# Altium schematic symbol library Schlib1.SchLib: 21 symbols
Pins are listed as number, name and electrical type; pins without a type are passive.

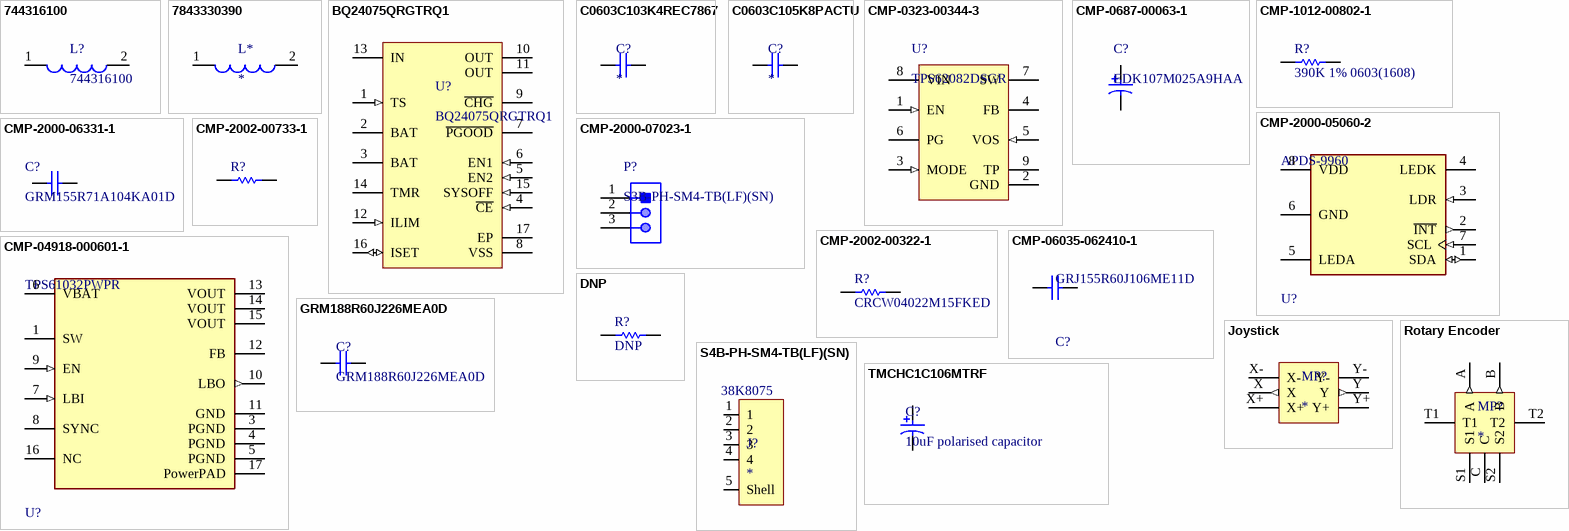
[diagram p0: symbols 744316100 to TMCHC1C106MTRF]

## 744316100
designator L?
Buck L1-Inductor Power Shielded Wirewound 1uH/0.65uH 20% 100KHz 11.5A 0.00475Ohm DCR Automotive T/R; Manufacturer: Wurth Electronics; Inductance: 1uH; DC Resistance (DCR): 4.75mR; Self Resonant Frequency: 158MHz; Supplier 1: Digi-Key; Supplier Part Number 1: 732-6176-1-ND; Manufacturer Part Number: 744316100; RoHS: Yes; Category: Fixed Inductors; Stock 1: 1274; Pricing 1: 1=2.64000, 50=2.44400, 100=2.22200, 250=2.01900, 500=1.83600 (USD); Mount: Surface Mount; Case/Package: SMD/SMT; Number of Pins: 2; Min Operating Temperature: -40°C; Max Operating Temperature: 150°C; Packaging: Cut Tape; Resistor Type: Wirewound; Current Rating: 11.5A; Saturation Current: 11.5A; Shielding: Shielded; Test Frequency: 100kHz; RMS Current (Irms): 11.5A; Tolerance: 20%; Inductance Tolerance: 20%; Length: 0.217inch; Width: 0.209inch; Height - Seated (Max): 0.169inch; REACH SVHC: Unknown; RoHS Compliant: Yes; ComponentLink1URL: http://www.farnell.com/datasheets/1880919.pdf?src-supplier=Farnell; ComponentLink1Description: http://www.farnell.com/datasheets/1880919.pdf?src-supplier=Farnell; ComponentLink2URL: https://katalog.we-online.de/pbs/datasheet/744316100.pdf?src-supplier=Digi-Key; ComponentLink2Description: https://katalog.we-online.de/pbs/datasheet/744316100.pdf?src-supplier=Digi-Key; ComponentLink3URL: http://www.farnell.com/datasheets/1880919.pdf?src-supplier=Element14; ComponentLink3Description: http://www.farnell.com/datasheets/1880919.pdf?src-supplier=Element14
footprint 744316100
pins: 1, 2

## 7843330390
designator L*
Boost L1-Inductor, Aec-Q200, 3.9Uh, Shld, 11.2A Rohs Compliant: Yes; Manufacturer: Wurth Electronics; Manufacturer Part Number: 7843330390; Supplier 1: Digi-Key; Supplier Part Number 1: 732-11759-1-ND; RoHS: Yes; Stock 1: 334; Pricing 1: 1=2.77000, 10=2.71300, 50=2.50400, 100=2.39900 (USD); RoHS Compliant: No
footprint 7843330390
pins: 1, 2

## BQ24075QRGTRQ1
designator U?
BQ24075-Q1 Automotive 4.35V to 1; Manufacturer: Texas Instruments; Output Voltage: 4.2V; Max Supply Voltage: 6.4V; Output Current: 1.5A; Number of Cells: 1; Interface: USB; Fault Protection: Over Voltage,Over Temperature,Short Circuit,Reverse Current; Battery Chemistry: LITHIUM-ION; Supplier 1: Digi-Key; Supplier Part Number 1: 296-36557-1-ND; Manufacturer Part Number: BQ24075QRGTRQ1; RoHS: Yes; Category: Battery Management; Pricing 1: 1=2.84000, 10=2.54800, 25=2.40880, 100=2.08770, 250=1.98060, 500=1.77720, 1000=1.76750 (USD); Mount: Surface Mount; Case/Package: QFN; Number of Pins: 16; Contact Plating: Gold; Min Operating Temperature: -40°C; Max Operating Temperature: 125°C; Packaging: Tape and Reel; Package Quantity: 3000; Max Charge Current: 1.5A; Battery Pack Voltage: 4.2V; Series: -; Lead Free: Lead Free; RoHS Compliant: Yes; ComponentLink1URL: https://datasheet.ciiva.com/29609/bq24075-q1-29609824.pdf?src-supplier=Digi-Key; ComponentLink1Description: https://datasheet.ciiva.com/29609/bq24075-q1-29609824.pdf?src-supplier=Digi-Key; ComponentLink2URL: https://datasheet.ciiva.com/12237/slusau3b-128558-12237294.pdf?src-supplier=Mouser; ComponentLink2Description: https://datasheet.ciiva.com/12237/slusau3b-128558-12237294.pdf?src-supplier=Mouser
footprint QFN50P300X300X100-17N
pins: 1 TS (in), 2 BAT, 3 BAT, 4 ~{CE} (in), 5 EN2 (in), 6 EN1 (in), 7 ~{PGOOD}, 8 VSS (power), 9 ~{CHG}, 10 OUT, 11 OUT, 12 ILIM (in), 13 IN (power), 14 TMR, 15 SYSOFF (in), 16 ISET (io), 17 EP

## C0603C103K4REC7867
designator C?
Rotary Enc-Cap Cer 0603 10NF 16V X7R 10%; Manufacturer: KEMET; Manufacturer Part Number: C0603C103K4REC7867; Supplier 1: Digi-Key; Supplier Part Number 1: 399-C0603C103K4REC7867CT-ND; RoHS: No; Category: Ceramic Capacitors; Stock 1: 907; Pricing 1: 1=0.12000, 10=0.08800, 50=0.04820, 100=0.03930, 500=0.02810, 1000=0.02208 (USD)
footprint CAPC1608X90
pins: 1, 2

## C0603C105K8PACTU
designator C?
Boost Coutx, Cap Ceramic 1uF 16V X7R 5% SMD 0603 125°C Paper T/R; Manufacturer: KEMET; MF: {'manufacturer': u'KEMET'}; MP: C0603C105K8PACTU; Tolerance: 10%; Dielectric: X5R; Voltage: 10V; Value: *; Package: None; Price: None; Availability: Unavailable; Supplier 1: Digi-Key; Supplier Part Number 1: 399-C0603C105K8PAC7867TR-ND; Manufacturer Part Number: C0603C105K8PACTU; RoHS: Yes; Category: Ceramic Capacitors; Stock 1: 359436; Pricing 1: 4000=0.01113, 8000=0.01016 (USD); Mount: Surface Mount; Case/Package: 0603; Number of Pins: 2; Dielectric Material: Ceramic; Case Code (Imperial): 0603; Case Code (Metric): 1608; Weight: 7.1E-05oz; Min Operating Temperature: -55°C; Max Operating Temperature: 85°C; Capacitance: 1uF; Packaging: Tape and Reel; Termination: SMD/SMT; Voltage Rating (DC): 10V; Package Quantity: 1; Voltage Rating: 10V; Series: C; Construction: Flat; Length: 1.6mm; Width: 0.031inch; Height: 0.8mm; Depth: 0.8mm; Thickness: 0.035inch; Radiation Hardening: No; Lead Free: Lead Free; REACH SVHC: No SVHC; RoHS Compliant: Yes; ComponentLink1URL: https://datasheet.ciiva.com/11787/0900766b8116eb59-11787747.pdf?src-supplier=RSComponents; ComponentLink1Description: https://datasheet.ciiva.com/11787/0900766b8116eb59-11787747.pdf?src-supplier=RSComponents; ComponentLink2URL: https://datasheet.ciiva.com/6074/40889-6074647.pdf?src-supplier=Farnell; ComponentLink2Description: https://datasheet.ciiva.com/6074/40889-6074647.pdf?src-supplier=Farnell; ComponentLink3URL: https://datasheet.ciiva.com/26847/getdatasheetpartid-385480-26847548.pdf?src-supplier=Verical; ComponentLink3Description: https://datasheet.ciiva.com/26847/getdatasheetpartid-385480-26847548.pdf?src-supplier=Verical; ComponentLink4URL: https://datasheet.ciiva.com/7823/40889-7823998.pdf?src-supplier=Element14; ComponentLink4Description: https://datasheet.ciiva.com/7823/40889-7823998.pdf?src-supplier=Element14; ComponentLink5URL: https://datasheet.ciiva.com/7823/1929483-7823999.pdf?src-supplier=Element14; ComponentLink5Description: https://datasheet.ciiva.com/7823/1929483-7823999.pdf?src-supplier=Element14; ComponentLink6URL: https://datasheet.ciiva.com/28645/1831760-28645655.pdf?src-supplier=Element14; ComponentLink6Description: https://datasheet.ciiva.com/28645/1831760-28645655.pdf?src-supplier=Element14; Supplier 2: Digi-Key; Supplier Part Number 2: 13-CC0603JRX7R7BB102CT-ND; Stock 2: 33465; Pricing 2: 1=0.10000, 10=0.07000, 50=0.03800, 100=0.03100, 500=0.02218, 1000=0.01742 (USD); Halogen Free: Halogen Free; ComponentLink7URL: https://datasheet.ciiva.com/11494/upy-gphc-x7r-6-3v-to-50v-8-11494730.pdf?src-supplier=Avnet; ComponentLink7Description: https://datasheet.ciiva.com/11494/upy-gphc-x7r-6-3v-to-50v-8-11494730.pdf?src-supplier=Avnet; Supplier 3: Digi-Key; Supplier Part Number 3: 311-3485-1-ND; Stock 3: 56081; Pricing 3: 1=0.26000, 10=0.17800, 50=0.10680, 100=0.09020, 500=0.06174, 1000=0.05462 (USD); ComponentLink8URL: http://www.yageo.com/documents/recent/UPY-GPHC_X7R_6.3V-to-50V_18.pdf?src-supplier=Digi-Key; ComponentLink8Description: http://www.yageo.com/documents/recent/UPY-GPHC_X7R_6.3V-to-50V_18.pdf?src-supplier=Digi-Key
footprint CAPC1608X90
pins: 1, 2

## CMP-0323-00344-3
designator U?, comment TPS62082DSGR
Buck Step Down Regulator with 2.3 to 6 V Input and 3.3 V Output, -40 to 85 degC, 8-Pin WSON (DSG), Green (RoHS & no Sb/Br); Manufacturer: Texas Instruments; Switch Current Limit(Typ)(A): 2.4; Vin(Min)(V): 2.3; Iq(Typ)(mA): 0.006; Regulated Outputs(#): 1; Vout(Max)(V): 3.3; Duty Cycle(Max)(%): 100; Iout(Max)(A): 1.2; SubFamily: Step-Down Regulator; Rating: Catalog; Vin(Max)(V): 6; ComponentLink1Description: Datasheet; ComponentLink3Description: URL Link1; ComponentLink2URL: http://www.ti.com/litv/pdf/mpds308a; DatasheetVersion: SLVSAE8B; PackageVersion: revB, Oct-2010; Eco-Plan: Green (RoHS & no Sb/Br); ComponentLink2Description: Package Specification; PackageReference: DSG0008A; Code_JEDEC: MO-229; Topology: Buck; PartNumber: TPS62082DSGR; PackageDescription: 8-Pin Plastic Small Outline No-Lead, 2 x 2 x 0.8 mm Body, 0.5 mm Pitch, Exposed Pad; ComponentLink1URL: http://www.ti.com/general/docs/lit/getliterature.tsp?genericPartNumber=TPS62082&fileType=pdf; ComponentLink3URL: Samples URL:http://www.ti.com/product/tps62082#samples; Vout(Min)(V): 3.3; Mounting Technology: Surface Mount
footprint DSG0008A_V (SON, 8-Leads, Body 2x2mm, Pitch 0.5mm, Thermal Pad 1.6x0.9mm, TI Recommended)
pins: 1 EN (in) "Device Enable Logic Input. Logic HIGH enables the device, logic LOW disables the device and turns it into shutdown.", 2 GND (power) "Power and Signal Ground.", 3 MODE (in) "Snooze Mode Enable Logic Input. Logic HIGH enables the Snooze Mode, logic LOW disables the Snooze Mode", 4 FB "Feedback Pin for the internal control loop. Connect this pin to the external feedback divider for the adjustable output version. For the fixed output voltage versions this pin must be left floating or connected to GND.", 5 VOS (in) "Output Voltage Sense Pin for the internal control loop. Must be connected to output.", 6 PG (hiz) "Power Good open drain output. This pin is pulled to low if the output voltage is below regulation limits. Can be left floating if not used", 7 SW (power) "Switch Pin connected to the internal MOSFET switches and inductor terminal. Connect the inductor of the output filter here.", 8 VIN (power) "Power Supply Voltage Input.", 9 TP (power) "Connect it to GND."

## CMP-0687-00063-1
designator C?, comment EDK107M025A9HAA
Aluminum Electrolytic Capacitor, UD Series, Low Impedance, 100 uF, 25 V, + / - 20%, -40 to 85 degC, Chip Type, 6.3 x 7.7 mm D x L; PartNumber: UUD1E101MCL1GS; Manufacturer: Nichicon; Rated Ripple Current (at 100kHz): 280 mA; Endurance Time: 2000 h; Rated Voltage: 25 V; Packing: Dia382mm Reel; Tolerance Rated Capacitance: -20 to 20%; Impedance: 0.34 Ohm; Rated Capacitance: 100 uF; PackageReference: CAPAE-D6.3H7.7; RoHS: TRUE; PackageDescription: 2-Pin Surface Mount Device, Diameter 6.3 mm, Height 7.7 mm, Pitch 5.4 mm; Mounting Technology: Surface Mount; ComponentLink3Description: Package Specification; Diameter: 6.3 mm; DatasheetVersion: 08/2012; ComponentLink3URL: http://products.nichicon.co.jp/en/pdf/XJA043/e-ud.pdf; Length: 7.7 mm; ComponentLink2Description: Datasheet; ComponentLink2URL: http://products.nichicon.co.jp/en/pdf/XJA043/e-ud.pdf; ComponentLink1Description: Manufacturer URL; ComponentLink1URL: http://www.nichicon.co.jp/
footprint EDK107M025A9HAA (Aluminum Electrolytic Capacitor, Diameter 6.3mm, Height 8mm, Pitch 5.4mm)
pins: 1, 2

## CMP-1012-00802-1
designator R?, comment 390K 1% 0603(1608)
Boost Rlbb, Res Thick Film 0603 390K Ohm 1% 1/10W ±100ppm/°C Molded SMD SMD Paper T/R; Manufacturer: Yageo; Manufacturer Part Number: RC0603FR-07390KL; Power: 0.1 W; Case-EIA: 0603; Case-Metric: 1608; Value: 390000.00 Ohm; Resistance: 390kR; Power Rating: 100mW; Voltage Rating: 50V; Working Voltage: 75V; Technology: SMT; Tolerance: 1 %; Supplier 1: Digi-Key; Supplier Part Number 1: 311-390KHRCT-ND; RoHS: Yes; Category: Chip SMD Resistors; Stock 1: 129633; Pricing 1: 1=0.10000, 10=0.02400, 100=0.00970, 1000=0.00436, 2500=0.00378 (USD); Case/Package: 0603; Number of Pins: 2; Case Code (Imperial): 0603; Case Code (Metric): 1608; Min Operating Temperature: -55°C; Max Operating Temperature: 155°C; Packaging: Tape and Reel; Voltage Rating (DC): 50V; Package Quantity: 1; Termination: SMD/SMT; Resistor Type: Thick Film; Number of Terminations: 2; Temperature Coefficient: 100ppm/°C; Max Power Dissipation: 100mW; Features: Moisture Resistant; Series: RC; Resistance Tolerance: 1%; Construction: Rectangular; Length: 1.6mm; Width: 0.031inch; Height: 0.022inch; Depth: 0.8mm; REACH SVHC: Unknown; Military Standard: Not; Lead Free: Lead Free; RoHS Compliant: Yes; ComponentLink1URL: https://datasheet.ciiva.com/5557/rc0603-5557952.pdf?src-supplier=Mouser; ComponentLink1Description: https://datasheet.ciiva.com/5557/rc0603-5557952.pdf?src-supplier=Mouser; ComponentLink2URL: https://datasheet.ciiva.com/11819/0900766b80f96399-11819357.pdf?src-supplier=RSComponents; ComponentLink2Description: https://datasheet.ciiva.com/11819/0900766b80f96399-11819357.pdf?src-supplier=RSComponents; ComponentLink3URL: https://datasheet.ciiva.com/2454/pyu-r-int-thick-7-2454246.pdf?src-supplier=Digi-Key; ComponentLink3Description: https://datasheet.ciiva.com/2454/pyu-r-int-thick-7-2454246.pdf?src-supplier=Digi-Key; ComponentLink4URL: https://datasheet.ciiva.com/2454/pyu-r-int-thick-7-2454247.pdf?src-supplier=Digi-Key; ComponentLink4Description: https://datasheet.ciiva.com/2454/pyu-r-int-thick-7-2454247.pdf?src-supplier=Digi-Key; ComponentLink5URL: https://datasheet.ciiva.com/2454/pyu-r-int-thick-7-2454248.pdf?src-supplier=Digi-Key; ComponentLink5Description: https://datasheet.ciiva.com/2454/pyu-r-int-thick-7-2454248.pdf?src-supplier=Digi-Key; Supplier 2: Digi-Key; Supplier Part Number 2: RMCF0603FT390KCT-ND; Stock 2: 3716; Pricing 2: 1=0.10000, 10=0.01700, 100=0.00680, 1000=0.00305, 2500=0.00264 (USD); Mount: Surface Mount; Contact Plating: Tin,Matte; Radiation Hardening: No; ComponentLink6URL: https://www.seielect.com/Catalog/SEI-RMCF_RMCP.pdf?src-supplier=Digi-Key; ComponentLink6Description: https://www.seielect.com/Catalog/SEI-RMCF_RMCP.pdf?src-supplier=Digi-Key; ComponentLink7URL: https://www.seielect.com/catalog/SEI-Packaging.pdf?src-supplier=Digi-Key; ComponentLink7Description: https://www.seielect.com/catalog/SEI-Packaging.pdf?src-supplier=Digi-Key; ComponentLink8URL: https://www.seielect.com/catalog/SEI-RMCF_RMCP.pdf?src-supplier=Avnet; ComponentLink8Description: https://www.seielect.com/catalog/SEI-RMCF_RMCP.pdf?src-supplier=Avnet
footprint RESC0603(1608)_M (Chip Resistor, Body 1.6x0.8mm, IPC Low Density)
pins: 1, 2
1 alternate drawing of the same symbol

## CMP-2000-05060-2
designator U?, comment APDS-9960
SENSOR OPT 560NM AMBIENT MODULE; Max Supply Voltage (DC): 3.6V; Min Supply Voltage (DC): 2.4V; Sensing Distance: 100mm; Output Type: Digital; Min Operating Temperature: -30°C; Wavelength: 560nm; REACH SVHC: No SVHC; Packaging: Tape and Reel; Max Operating Temperature: 85°C; Mount: Surface Mount; Case/Package: SMD/SMT; Number of Pins: 8
footprint FP-APDS-9960-MFG
pins: 1 SDA (io), 2 ~{INT} (out), 3 LDR (in), 4 LEDK, 5 LEDA, 6 GND (power), 7 SCL (in), 8 VDD (power)

## CMP-2000-06331-1
designator C?, comment GRM155R71A104KA01D
Boost Cinx, Cap 100NF 16V 0402 SMD 10% X7R; Manufacturer: Murata; Rated Voltage: 10V; Capacitance: 100000pF; Dissipation Factor: 0.035%; Manufacturer URL: http://www.murata.com/; Datasheet Version: 02/2016; Datasheet URL: http://search.murata.co.jp/Ceramy/image/img/A01X/G101/ENG/GRM155R71A104KA01-01.pdf; Dielectric: X7R; Package Reference: 0402; Tolerance (%): ±10%; Package Description: 2-Pin Surface Mount Device, Body 1 x 0.5 mm; Mounting Technology: SurfaceMount; Case Size/Dimension: 0402; Supplier 1: Digi-Key; Supplier Part Number 1: 490-6321-1-ND; Manufacturer Part Number: GRM155R71A104KA01D; RoHS: Yes; Category: Ceramic Capacitors; Stock 1: 5059; Pricing 1: 1=0.10000, 10=0.02300, 50=0.01260, 100=0.01030, 500=0.00736, 1000=0.00578, 2500=0.00525, 5000=0.00483 (USD); Mount: Surface Mount; Case/Package: 0402; Number of Pins: 2; Case Code (Metric): 1005; Case Code (Imperial): 0402; Min Operating Temperature: -55°C; Max Operating Temperature: 125°C; Tolerance: 10%; Package Quantity: 1; Voltage Rating: 10V; Packaging: Tape and Reel; Voltage Rating (DC): 10V; Termination: SMD/SMT; Voltage: 10V; Series: GRM; Construction: Flat; Length: 1mm; Width: 0.02inch; Height: 0.5mm; Thickness: 0.022inch; Depth: 0.5mm; Size: 0.5mm; Radiation Hardening: No; REACH SVHC: No SVHC; Lead Free: Lead Free; RoHS Compliant: Yes; ComponentLink1URL: https://datasheet.ciiva.com/6271/product-6271137.pdf?src-supplier=Digi-Key; ComponentLink1Description: https://datasheet.ciiva.com/6271/product-6271137.pdf?src-supplier=Digi-Key; ComponentLink2URL: https://datasheet.ciiva.com/19475/1856345-19475961.pdf?src-supplier=Jameco; ComponentLink2Description: https://datasheet.ciiva.com/19475/1856345-19475961.pdf?src-supplier=Jameco; ComponentLink3URL: https://datasheet.ciiva.com/11789/0900766b80ef921d-11789061.pdf?src-supplier=RSComponents; ComponentLink3Description: https://datasheet.ciiva.com/11789/0900766b80ef921d-11789061.pdf?src-supplier=RSComponents; ComponentLink4URL: https://datasheet.ciiva.com/7937/1747441-7937613.pdf?src-supplier=Element14; ComponentLink4Description: https://datasheet.ciiva.com/7937/1747441-7937613.pdf?src-supplier=Element14; ComponentLink5URL: https://datasheet.ciiva.com/18184/getdatasheetpartid-130330-18184636.pdf?src-supplier=Verical; ComponentLink5Description: https://datasheet.ciiva.com/18184/getdatasheetpartid-130330-18184636.pdf?src-supplier=Verical; ComponentLink6URL: https://datasheet.ciiva.com/6271/partnumbering-e-01-6271135.pdf?src-supplier=Digi-Key; ComponentLink6Description: https://datasheet.ciiva.com/6271/partnumbering-e-01-6271135.pdf?src-supplier=Digi-Key; ComponentLink7URL: https://datasheet.ciiva.com/16199/c02e-16199258.pdf?src-supplier=Future+Electronics; ComponentLink7Description: https://datasheet.ciiva.com/16199/c02e-16199258.pdf?src-supplier=Future+Electronics; Supplier 2: Digi-Key; Supplier Part Number 2: 311-1338-2-ND; Stock 2: 27298742; Pricing 2: 10000=0.00554, 20000=0.00528 (USD); Resistor Type: Ceramic; Halogen Free: Halogen Free; ComponentLink8URL: https://datasheet.ciiva.com/11788/0900766b80ce67ed-11788364.pdf?src-supplier=RSComponents; ComponentLink8Description: https://datasheet.ciiva.com/11788/0900766b80ce67ed-11788364.pdf?src-supplier=RSComponents; ComponentLink9URL: https://datasheet.ciiva.com/7978/1489800-7978111.pdf?src-supplier=Element14; ComponentLink9Description: https://datasheet.ciiva.com/7978/1489800-7978111.pdf?src-supplier=Element14; ComponentLink10URL: https://datasheet.ciiva.com/28450/1489800-28450335.pdf?src-supplier=Element14; ComponentLink10Description: https://datasheet.ciiva.com/28450/1489800-28450335.pdf?src-supplier=Element14; ComponentLink11URL: https://datasheet.ciiva.com/161/mlccorderingcode-161545.pdf?src-supplier=Digi-Key; ComponentLink11Description: https://datasheet.ciiva.com/161/mlccorderingcode-161545.pdf?src-supplier=Digi-Key; ComponentLink12URL: https://datasheet.ciiva.com/161/mlccorderingcode-161544.pdf?src-supplier=Digi-Key; ComponentLink12Description: https://datasheet.ciiva.com/161/mlccorderingcode-161544.pdf?src-supplier=Digi-Key; ComponentLink13URL: https://datasheet.ciiva.com/161/mlccorderingcode-161546.pdf?src-supplier=Digi-Key; ComponentLink13Description: https://datasheet.ciiva.com/161/mlccorderingcode-161546.pdf?src-supplier=Digi-Key; ComponentLink14URL: https://datasheet.ciiva.com/13395/upy-gphc-x7r-6-3v-to-50v-8-13395676.pdf?src-supplier=Mouser; ComponentLink14Description: https://datasheet.ciiva.com/13395/upy-gphc-x7r-6-3v-to-50v-8-13395676.pdf?src-supplier=Mouser; ComponentLink15URL: https://datasheet.ciiva.com/11587/upy-gphc-x7r-6-3v-to-50v-8-11587305.pdf?src-supplier=Avnet; ComponentLink15Description: https://datasheet.ciiva.com/11587/upy-gphc-x7r-6-3v-to-50v-8-11587305.pdf?src-supplier=Avnet; ComponentLink16URL: https://datasheet.ciiva.com/8033/1734573-8033663.pdf?src-supplier=Element14; ComponentLink16Description: https://datasheet.ciiva.com/8033/1734573-8033663.pdf?src-supplier=Element14; ComponentLink17URL: https://datasheet.ciiva.com/8033/1734573-8033661.pdf?src-supplier=Element14; ComponentLink17Description: https://datasheet.ciiva.com/8033/1734573-8033661.pdf?src-supplier=Element14; ComponentLink18URL: https://datasheet.ciiva.com/16625/upy-gphc-x7r-6-3v-to-50v-8-16625511.pdf?src-supplier=Avnet+Europe; ComponentLink18Description: https://datasheet.ciiva.com/16625/upy-gphc-x7r-6-3v-to-50v-8-16625511.pdf?src-supplier=Avnet+Europe
footprint CAPC1005X55X25LL05T10 (Chip Capacitor, 2-Leads, Body 1.05x0.55mm, IPC High Density)
pins: 1, 2

## CMP-2000-07023-1
designator P?, comment S3B-PH-SM4-TB(LF)(SN)
Audio Amplifier Connector-Disconnectable Crimp Style Connector, 2 A, 100 V, Right Angle, -25 to 85 degC, 3-Pin SMD, RoHS, Tape and Reel; Manufacturer: JST; Current Rating: 2mA; No of Positions: 3; Voltage Rating: 100V; Style/Orientation: RightAngleHeader/Plug; Pitch: 2mm; No. of Rows: 1; Mounting Technology: SurfaceMount; Package Description: 3-Pin Surface Mount Device, Body 9.9 x 7.6 mm, Pitch 2 mm; Type: WiretoBoard; Datasheet URL: https://datasheet.ciiva.com/16201/jst20s3b-ph-sm4-tb-lf-sn-16201903.pdf; Manufacturer URL: http://www.jst.com/home2.html; No. of Positions: 3; PartNumber: S3B-PH-SM4-TB; Termination: Crimp; Orientation: RightAngle; Package URL: https://datasheet.ciiva.com/16201/jst20s3b-ph-sm4-tb-lf-sn-16201903.pdf; Package Reference: S3B-PH-SM4-TB-3; Datasheet Version: 12/2012
footprint JST-S3B-PH-SM4-TB-3_V - duplicate (Header, 3-Leads, Body 9.9x7.6mm, Pitch 2mm)
pins: 1, 2, 3

## CMP-2002-00322-1
designator R?, comment CRCW04022M15FKED
Boost Rlbo, Boost Rlbo-Res Thick Film 0402 2.15M Ohm 1% 1/16W ±100ppm/°C Molded SMD SMD Paper T/R; Manufacturer: Vishay Dale; Resistance: 2.15MR; Max Power Dissipation: 63mW; Voltage Rating: 50V; Part Number: CRCW04022M15FKED; Supplier 1: Digi-Key; Supplier Part Number 1: 541-2.15MLCT-ND; Manufacturer Part Number: CRCW04022M15FKED; RoHS: Yes; Category: Chip SMD Resistors; Stock 1: 790; Pricing 1: 1=0.10000, 10=0.03800, 100=0.01530, 1000=0.00686, 2500=0.00595, 5000=0.00492 (USD); Case/Package: 0402; Number of Pins: 2; Weight: 2.3E-05oz; Case Code (Metric): 1005; Case Code (Imperial): 0402; Contact Plating: Tin; Min Operating Temperature: -55°C; Max Operating Temperature: 155°C; Packaging: Tape and Reel; Tolerance: 1%; Resistor Type: Thick Film; Number of Terminations: 2; Temperature Coefficient: 100ppm/°C; Power Rating: 63mW; Package Quantity: 10000; Termination: SMD/SMT; Voltage Rating (DC): 50V; Features: Automotive AEC-Q200; Series: CRCW; Construction: Rectangular; Resistance Tolerance: 1%; Length: 1mm; Width: 0.02inch; Height: 0.016inch; Depth: 0.5mm; Radiation Hardening: No; RoHS Compliant: Yes; REACH SVHC: Unknown; Military Standard: Not; Lead Free: Lead Free; ComponentLink1URL: https://datasheet.ciiva.com/9091/dcrcwe3-9091823.pdf?src-supplier=Avnet; ComponentLink1Description: https://datasheet.ciiva.com/9091/dcrcwe3-9091823.pdf?src-supplier=Avnet; ComponentLink2URL: https://datasheet.ciiva.com/2464/dcrcwe3-2464648.pdf?src-supplier=Digi-Key; ComponentLink2Description: https://datasheet.ciiva.com/2464/dcrcwe3-2464648.pdf?src-supplier=Digi-Key; ComponentLink3URL: https://datasheet.ciiva.com/2464/dcrcwe3-2464649.pdf?src-supplier=Digi-Key; ComponentLink3Description: https://datasheet.ciiva.com/2464/dcrcwe3-2464649.pdf?src-supplier=Digi-Key; ComponentLink4URL: https://datasheet.ciiva.com/2464/dcrcwe3-2464650.pdf?src-supplier=Digi-Key; ComponentLink4Description: https://datasheet.ciiva.com/2464/dcrcwe3-2464650.pdf?src-supplier=Digi-Key; ComponentLink5URL: https://datasheet.ciiva.com/5543/dcrcwe3-109170-5543499.pdf?src-supplier=Mouser; ComponentLink5Description: https://datasheet.ciiva.com/5543/dcrcwe3-109170-5543499.pdf?src-supplier=Mouser; ComponentLink6URL: https://datasheet.ciiva.com/22708/1697337-22708317.pdf?src-supplier=Element14; ComponentLink6Description: https://datasheet.ciiva.com/22708/1697337-22708317.pdf?src-supplier=Element14; ComponentLink7URL: https://datasheet.ciiva.com/7801/1697337-7801003.pdf?src-supplier=Element14; ComponentLink7Description: https://datasheet.ciiva.com/7801/1697337-7801003.pdf?src-supplier=Element14; ComponentLink8URL: https://datasheet.ciiva.com/7801/1697337-7801004.pdf?src-supplier=Element14; ComponentLink8Description: https://datasheet.ciiva.com/7801/1697337-7801004.pdf?src-supplier=Element14
footprint RESC1005X40X25ML05T05 (Chip Resistor, 2-Leads, Body 1.00x0.50mm, IPC Low Density)
pins: 1, 2
1 alternate drawing of the same symbol

## CMP-2002-00733-1
designator R?
Buck Rpg, Res Thick Film 0402 178K Ohm 1% 0.063W ±100ppm/°C Molded SMD Paper T/R; Part Number: ERJ-2RKF1783X; Manufacturer: Panasonic; Manufacturer Part Number: RMCF0402FT178K; Resistance: 178kR; Power Rating: 63mW; Supplier 1: Digi-Key; Supplier Part Number 1: RMCF0402FT178KCT-ND; RoHS: Yes; Category: Chip SMD Resistors; Stock 1: 6763; Pricing 1: 1=0.10000, 10=0.01500, 100=0.00610, 1000=0.00274, 2500=0.00238, 5000=0.00197 (USD); Mount: Surface Mount; Case/Package: 0402; Case Code (Metric): 1005; Case Code (Imperial): 0402; Contact Plating: Tin,Matte; Size Code: 0402; Min Operating Temperature: -55°C; Max Operating Temperature: 155°C; Tolerance: 1%; Packaging: Tape and Reel; Resistor Type: Thick Film; Number of Terminations: 2; Max Power Dissipation: 63mW; Temperature Coefficient: 100ppm/°C; Features: Automotive AEC-Q200; Series: RMCF; Length: 0.039inch; Width: 0.02inch; Height: 0.016inch; Radiation Hardening: No; Lead Free: Lead Free; RoHS Compliant: Yes; ComponentLink1URL: https://www.seielect.com/Catalog/SEI-RMCF_RMCP.pdf?src-supplier=Digi-Key; ComponentLink1Description: https://www.seielect.com/Catalog/SEI-RMCF_RMCP.pdf?src-supplier=Digi-Key; ComponentLink2URL: https://www.seielect.com/catalog/SEI-Packaging.pdf?src-supplier=Digi-Key; ComponentLink2Description: https://www.seielect.com/catalog/SEI-Packaging.pdf?src-supplier=Digi-Key; ComponentLink3URL: https://www.seielect.com/catalog/SEI-RMCF_RMCP.pdf?src-supplier=Avnet; ComponentLink3Description: https://www.seielect.com/catalog/SEI-RMCF_RMCP.pdf?src-supplier=Avnet; ComponentLink4URL: http://seielect.com/Catalog/SEI-RMC.pdf?src-supplier=Future+Electronics; ComponentLink4Description: http://seielect.com/Catalog/SEI-RMC.pdf?src-supplier=Future+Electronics
footprint RESC1005X40X25NL05T05 (Chip Resistor, 2-Leads, Body 1.00x0.50mm, IPC Medium Density)
footprint RESC1005X40X25ML05T05 (Chip Resistor, 2-Leads, Body 1.00x0.50mm, IPC Low Density)
footprint RESC1005X40X25LL05T05 (Chip Resistor, 2-Leads, Body 1.00x0.50mm, IPC High Density)
pins: 1, 2
1 alternate drawing of the same symbol

## CMP-04918-000601-1
designator U?, comment TPS61032PWPR
IC REG BOOST 5V 3.6A 16HTSSOP; Max Output Current: 1A; Number of Outputs: 1; Synchronous Rectifier: Yes; Switching Frequency: 600kHz; Output Type: Fixed; Current Rating: 20mA; Max Input Voltage: 5.5V; Output Configuration: Positive; Quiescent Current: 20uA; Efficiency: 96%; Min Input Voltage: 1.8V; Package Quantity: 1; Max Operating Temperature: 85°C; Output Current: 1A; Min Operating Temperature: -40°C; Min Output Voltage: 5V; Topology: Boost; RoHS Compliant: Yes; Number of Pins: 16; Case/Package: HTSSOP; Series: -; Output Voltage: 5V; Mount: Surface Mount; Lead Free: Lead Free; Weight: 0.002212oz; Radiation Hardening: No; REACH SVHC: No SVHC; Nominal Output Voltage: 5V; Packaging: Tape and Reel; Width: 4.4mm; Operating Supply Voltage: 5.5V
footprint FP-PWP0016C-IPC_C
footprint FP-PWP0016C-MFG
footprint FP-PWP0016C-IPC_B
footprint FP-PWP0016C-IPC_A
pins: 1 SW, 3 PGND (power), 4 PGND (power), 5 PGND (power), 6 VBAT (power), 7 LBI (in), 8 SYNC, 9 EN (in), 10 LBO (out), 11 GND (power), 12 FB, 13 VOUT (power), 14 VOUT (power), 15 VOUT (power), 16 NC, 17 PowerPAD (power)

## CMP-06035-062410-1
designator C?, comment GRJ155R60J106ME11D
Boost Cin, Buck Cin-Cap Ceramic 10uF 16V X7R 20% SMD 0805 125°C Blister T/R; Manufacturer: Murata; Voltage Rating: 6.3V; Length: 0.039inch; Width: 0.02inch; Capacitance: 10uF; Max Operating Temperature: 85°C; Features: Soft Termination; Case Code (Metric): 1005; Tolerance: 20%; Min Operating Temperature: -55°C; Thickness: 0.028inch; Mount: Surface Mount; Packaging: Cut Tape; Case/Package: 0402; Case Code (Imperial): 0402; RoHS Compliant: Yes; Supplier 1: Digi-Key; Supplier Part Number 1: 490-13211-2-ND; Manufacturer Part Number: GRJ155R60J106ME11D; RoHS: Yes; Category: Ceramic Capacitors; Stock 1: 1752680; Pricing 1: 10000=0.03490, 20000=0.03307 (USD); ComponentLink1URL: http://psearch.en.murata.com/capacitor/product/GRJ155R60J106ME11%23.pdf?src-supplier=Digi-Key; ComponentLink1Description: http://psearch.en.murata.com/capacitor/product/GRJ155R60J106ME11%23.pdf?src-supplier=Digi-Key; Supplier 2: Digi-Key; Supplier Part Number 2: 311-1338-2-ND; Stock 2: 27298742; Pricing 2: 10000=0.00554, 20000=0.00528 (USD); Number of Pins: 2; Dielectric: X7R; Voltage Rating (DC): 16V; Package Quantity: 1; Termination: SMD/SMT; Resistor Type: Ceramic; Voltage: 16V; Series: CC; Height: 0.5mm; Depth: 0.5mm; Radiation Hardening: No; REACH SVHC: No SVHC; Lead Free: Lead Free; Halogen Free: Halogen Free; ComponentLink2URL: https://datasheet.ciiva.com/11788/0900766b80ce67ed-11788364.pdf?src-supplier=RSComponents; ComponentLink2Description: https://datasheet.ciiva.com/11788/0900766b80ce67ed-11788364.pdf?src-supplier=RSComponents; ComponentLink3URL: https://datasheet.ciiva.com/7978/1489800-7978111.pdf?src-supplier=Element14; ComponentLink3Description: https://datasheet.ciiva.com/7978/1489800-7978111.pdf?src-supplier=Element14; ComponentLink4URL: https://datasheet.ciiva.com/28450/1489800-28450335.pdf?src-supplier=Element14; ComponentLink4Description: https://datasheet.ciiva.com/28450/1489800-28450335.pdf?src-supplier=Element14; ComponentLink5URL: https://datasheet.ciiva.com/161/mlccorderingcode-161545.pdf?src-supplier=Digi-Key; ComponentLink5Description: https://datasheet.ciiva.com/161/mlccorderingcode-161545.pdf?src-supplier=Digi-Key; ComponentLink6URL: https://datasheet.ciiva.com/161/mlccorderingcode-161544.pdf?src-supplier=Digi-Key; ComponentLink6Description: https://datasheet.ciiva.com/161/mlccorderingcode-161544.pdf?src-supplier=Digi-Key; ComponentLink7URL: https://datasheet.ciiva.com/161/mlccorderingcode-161546.pdf?src-supplier=Digi-Key; ComponentLink7Description: https://datasheet.ciiva.com/161/mlccorderingcode-161546.pdf?src-supplier=Digi-Key; ComponentLink8URL: https://datasheet.ciiva.com/13395/upy-gphc-x7r-6-3v-to-50v-8-13395676.pdf?src-supplier=Mouser; ComponentLink8Description: https://datasheet.ciiva.com/13395/upy-gphc-x7r-6-3v-to-50v-8-13395676.pdf?src-supplier=Mouser; ComponentLink9URL: https://datasheet.ciiva.com/11587/upy-gphc-x7r-6-3v-to-50v-8-11587305.pdf?src-supplier=Avnet; ComponentLink9Description: https://datasheet.ciiva.com/11587/upy-gphc-x7r-6-3v-to-50v-8-11587305.pdf?src-supplier=Avnet; ComponentLink10URL: https://datasheet.ciiva.com/8033/1734573-8033663.pdf?src-supplier=Element14; ComponentLink10Description: https://datasheet.ciiva.com/8033/1734573-8033663.pdf?src-supplier=Element14; ComponentLink11URL: https://datasheet.ciiva.com/8033/1734573-8033661.pdf?src-supplier=Element14; ComponentLink11Description: https://datasheet.ciiva.com/8033/1734573-8033661.pdf?src-supplier=Element14; ComponentLink12URL: https://datasheet.ciiva.com/16625/upy-gphc-x7r-6-3v-to-50v-8-16625511.pdf?src-supplier=Avnet+Europe; ComponentLink12Description: https://datasheet.ciiva.com/16625/upy-gphc-x7r-6-3v-to-50v-8-16625511.pdf?src-supplier=Avnet+Europe; Supplier 3: Digi-Key; Supplier Part Number 3: 311-3508-1-ND; Stock 3: 2481; Pricing 3: 1=0.64000, 10=0.45400, 50=0.34360, 100=0.29920, 500=0.22164, 1000=0.18840 (USD); ComponentLink13URL: http://www.yageo.com/documents/recent/UPY-GPHC_X7R_6.3V-to-50V_18.pdf?src-supplier=Digi-Key; ComponentLink13Description: http://www.yageo.com/documents/recent/UPY-GPHC_X7R_6.3V-to-50V_18.pdf?src-supplier=Digi-Key; ComponentLink14URL: https://datasheet.octopart.com/CC0805MKX7R7BB106-Yageo-datasheet-10883670.pdf; ComponentLink14Description: https://datasheet.octopart.com/CC0805MKX7R7BB106-Yageo-datasheet-10883670.pdf; ComponentLink15URL: https://datasheet.octopart.com/Surface-Mount-Ceramic-Multilayer-Capacitors%3B-General-Purpose-%26-High-Capacitance-Class-2%2C-X7R-Yageo-datasheet-family-114.pdf; ComponentLink15Description: https://datasheet.octopart.com/Surface-Mount-Ceramic-Multilayer-Capacitors%3B-General-Purpose-%26-High-Capacitance-Class-2%2C-X7R-Yageo-datasheet-family-114.pdf; ComponentLink16URL: https://datasheet.octopart.com/CC0805MKX7R7BB106-Yageo-datasheet-147453679.pdf?src-supplier=Future+Electronics; ComponentLink16Description: https://datasheet.octopart.com/CC0805MKX7R7BB106-Yageo-datasheet-147453679.pdf?src-supplier=Future+Electronics
footprint CAPC2012X127N
pins: 1, 2

## DNP
designator R?
Temperature Coefficient: 100ppm/°C; Power Rating: 63mW; Voltage Rating: 50V; Resistance Tolerance: 1%; RoHS: Yes; Case/Package: 0402; Number of Pins: 2; Contact Plating: Tin; Case Code (Metric): 1005; Case Code (Imperial): 0402; Min Operating Temperature: -55°C; Max Operating Temperature: 155°C; Resistor Type: Thick Film; Package Quantity: 10; Number of Terminations: 2; Termination: SMD/SMT; Max Power Dissipation: 63mW; Features: Automotive AEC-Q200; Series: CRCW; Voltage Rating (DC): 50V; Construction: Rectangular; Technology: THICK FILM; Length: 1mm; Width: 0.02inch; Height: 0.35mm; Depth: 0.5mm; Radiation Hardening: No; RoHS Compliant: Yes; Lead Free: Lead Free; REACH SVHC: Unknown; Military Standard: Not
footprint DNP
pins: 1, 2
1 alternate drawing of the same symbol

## GRM188R60J226MEA0D
designator C?
Buck Cout, Multilayer Ceramic Capacitors 0805 25V X5R 226 20% 7'REEL PLASTIC; Manufacturer: Murata; Capacitance: 22uF; Voltage Rating: 6.3V; Supplier 1: Digi-Key; Supplier Part Number 1: 490-7611-2-ND; Manufacturer Part Number: GRM188R60J226MEA0D; RoHS: Yes; Category: Ceramic Capacitors; Stock 1: 1396125; Pricing 1: 4000=0.03800, 8000=0.03610 (USD); Mount: Surface Mount; Case/Package: 0603; Case Code (Metric): 1608; Case Code (Imperial): 0603; Weight: 0.000222oz; Min Operating Temperature: -55°C; Max Operating Temperature: 85°C; Tolerance: 20%; Packaging: Tape and Reel; Package Quantity: 4000; Dielectric: X5R; Termination: SMD/SMT; Voltage Rating (DC): 6.3V; Length: 1.6mm; Width: 0.8mm; Height: 0.8mm; Thickness: 0.039inch; Depth: 0.8mm; REACH SVHC: No SVHC; Lead Free: Lead Free; RoHS Compliant: Yes; ComponentLink1URL: https://datasheet.ciiva.com/29540/partnumbering-e-01-29540441.pdf?src-supplier=Digi-Key; ComponentLink1Description: https://datasheet.ciiva.com/29540/partnumbering-e-01-29540441.pdf?src-supplier=Digi-Key; ComponentLink2URL: https://datasheet.ciiva.com/29540/partnumbering-e-01-29540442.pdf?src-supplier=Digi-Key; ComponentLink2Description: https://datasheet.ciiva.com/29540/partnumbering-e-01-29540442.pdf?src-supplier=Digi-Key; ComponentLink3URL: https://datasheet.ciiva.com/29540/partnumbering-e-01-29540443.pdf?src-supplier=Digi-Key; ComponentLink3Description: https://datasheet.ciiva.com/29540/partnumbering-e-01-29540443.pdf?src-supplier=Digi-Key; Supplier 2: Digi-Key; Supplier Part Number 2: 311-1903-2-ND; Stock 2: 65672; Pricing 2: 3000=0.12413, 6000=0.11638 (USD); Halogen Free: Halogen Free; ComponentLink4URL: http://www.mouser.com/ds/2/447/Yageo_UPY-GP_NP0_16V-to-50V_9-358835.pdf?src-supplier=Mouser; ComponentLink4Description: http://www.mouser.com/ds/2/447/Yageo_UPY-GP_NP0_16V-to-50V_9-358835.pdf?src-supplier=Mouser; ComponentLink5URL: http://www.yageo.com/documents/recent/UPY-GPHC_X5R_4V-to-50V_25.pdf?src-supplier=Digi-Key; ComponentLink5Description: http://www.yageo.com/documents/recent/UPY-GPHC_X5R_4V-to-50V_25.pdf?src-supplier=Digi-Key
footprint CAPC2012X127N
pins: 1, 2

## Joystick
designator MP?
footprint Joystick
pins: X (out), X+ (power), X- (power), Y (out), Y+ (power), Y- (power)

## Rotary Encoder
designator MP?
footprint Rotary Encoder
pins: A (out), B (out), C (power), S1, S2, T1, T2

## S4B-PH-SM4-TB(LF)(SN)
designator J?  Supplier Part Number 1: 38K8075
LCD Keypad Connector-JST (JAPAN SOLDERLESS TERMINALS) - S4B-PH-SM4-TB(LF)(SN) - Wire-To-Board Connector, 2 mm, 4 Contacts, Header, PH Series, Surface Mount, 1 Rows; Manufacturer: JST; Number of Positions: 4; Insulation Resistance: 1GR; Gender: Male; Current Rating: 2A; Voltage Rating: 100V; Connector Type: Header,Male Pin; Contact Resistance: 20mR; Pitch: 2mm; Supplier 1: Newark; Manufacturer Part Number: S4B-PH-SM4-TB(LF)(SN); RoHS: Yes; Category: Connectors; Mount: Surface Mount; Housing Material: Polyamide; Color: Natural,White; Contact Material: Copper Alloy,Tin,Bronze,Brass; Contact Plating: Tin,Copper; Housing Color: Beige; Contact Shape: Square; Insulation Material: Nylon; Insulation Color: Natural; Min Operating Temperature: -25°C; Max Operating Temperature: 85°C; Termination: Solder; Number of Contacts: 4; Number of Rows: 1; Packaging: Tape and Reel; Voltage Rating (AC): 100V; Orientation: Right Angle; Fastening Type: Detent; Working Voltage: 100V; Max Voltage Rating (AC): 100V; Max Voltage Rating (DC): 100V; Number of Poles: 4; Max Current Rating: 2A; Length: 11.9mm; Width: 5mm; Height: 9.4mm; Contact Mating Length: 0.13inch; Depth: 7.6mm; Lead Pitch: 2mm; Lead Free: Lead Free; REACH SVHC: No SVHC; Flammability Rating: UL94 V-0; ComponentLink1URL: https://datasheet.ciiva.com/11746/0900766b80df0d9d-11746552.pdf?src-supplier=RSComponents; ComponentLink1Description: https://datasheet.ciiva.com/11746/0900766b80df0d9d-11746552.pdf?src-supplier=RSComponents; ComponentLink2URL: https://datasheet.ciiva.com/712/eph-712578.pdf?src-supplier=Digi-Key; ComponentLink2Description: https://datasheet.ciiva.com/712/eph-712578.pdf?src-supplier=Digi-Key; ComponentLink3URL: https://datasheet.ciiva.com/712/eph-712579.pdf?src-supplier=Digi-Key; ComponentLink3Description: https://datasheet.ciiva.com/712/eph-712579.pdf?src-supplier=Digi-Key; ComponentLink4URL: https://datasheet.ciiva.com/730/eph-730675.pdf?src-supplier=Digi-Key; ComponentLink4Description: https://datasheet.ciiva.com/730/eph-730675.pdf?src-supplier=Digi-Key; ComponentLink5URL: https://datasheet.ciiva.com/8052/1699381-8052234.pdf?src-supplier=Element14; ComponentLink5Description: https://datasheet.ciiva.com/8052/1699381-8052234.pdf?src-supplier=Element14; ComponentLink6URL: https://datasheet.ciiva.com/26894/getdatasheetpartid-639990-26894620.pdf?src-supplier=Verical; ComponentLink6Description: https://datasheet.ciiva.com/26894/getdatasheetpartid-639990-26894620.pdf?src-supplier=Verical; ComponentLink7URL: https://datasheet.ciiva.com/16376/eph-16376783.pdf?src-supplier=Future+Electronics; ComponentLink7Description: https://datasheet.ciiva.com/16376/eph-16376783.pdf?src-supplier=Future+Electronics
footprint S4B-PH-SM4-TB(LF)(SN)
footprint 1775469-4
pins: 1, 2, 3, 4, 5 Shell

## TMCHC1C106MTRF
designator C?, comment 10uF polarised capacitor
10uF TMCHC1C106MTRF LDO capacitor; Manufacturer Part Number: TMCHC1C106MTRF; Category: Tantalum Capacitors; RoHS Compliant: Yes
footprint TMCHC1C106MTRF
pins: 1, 2